# Altium footprint library ConnectorsLib.PcbLib: 142 footprints (part 8 of 9)
Each footprint in its own frame and in the unit in brackets; x right, y up, seen from the top. Pads: shape width x height; smd on the part's side, far side on the other; paste and mask are expansions set on the pad; w line width, h text height; cw(c..) or ccw(c..) is an arc to the next point about the centre after c.
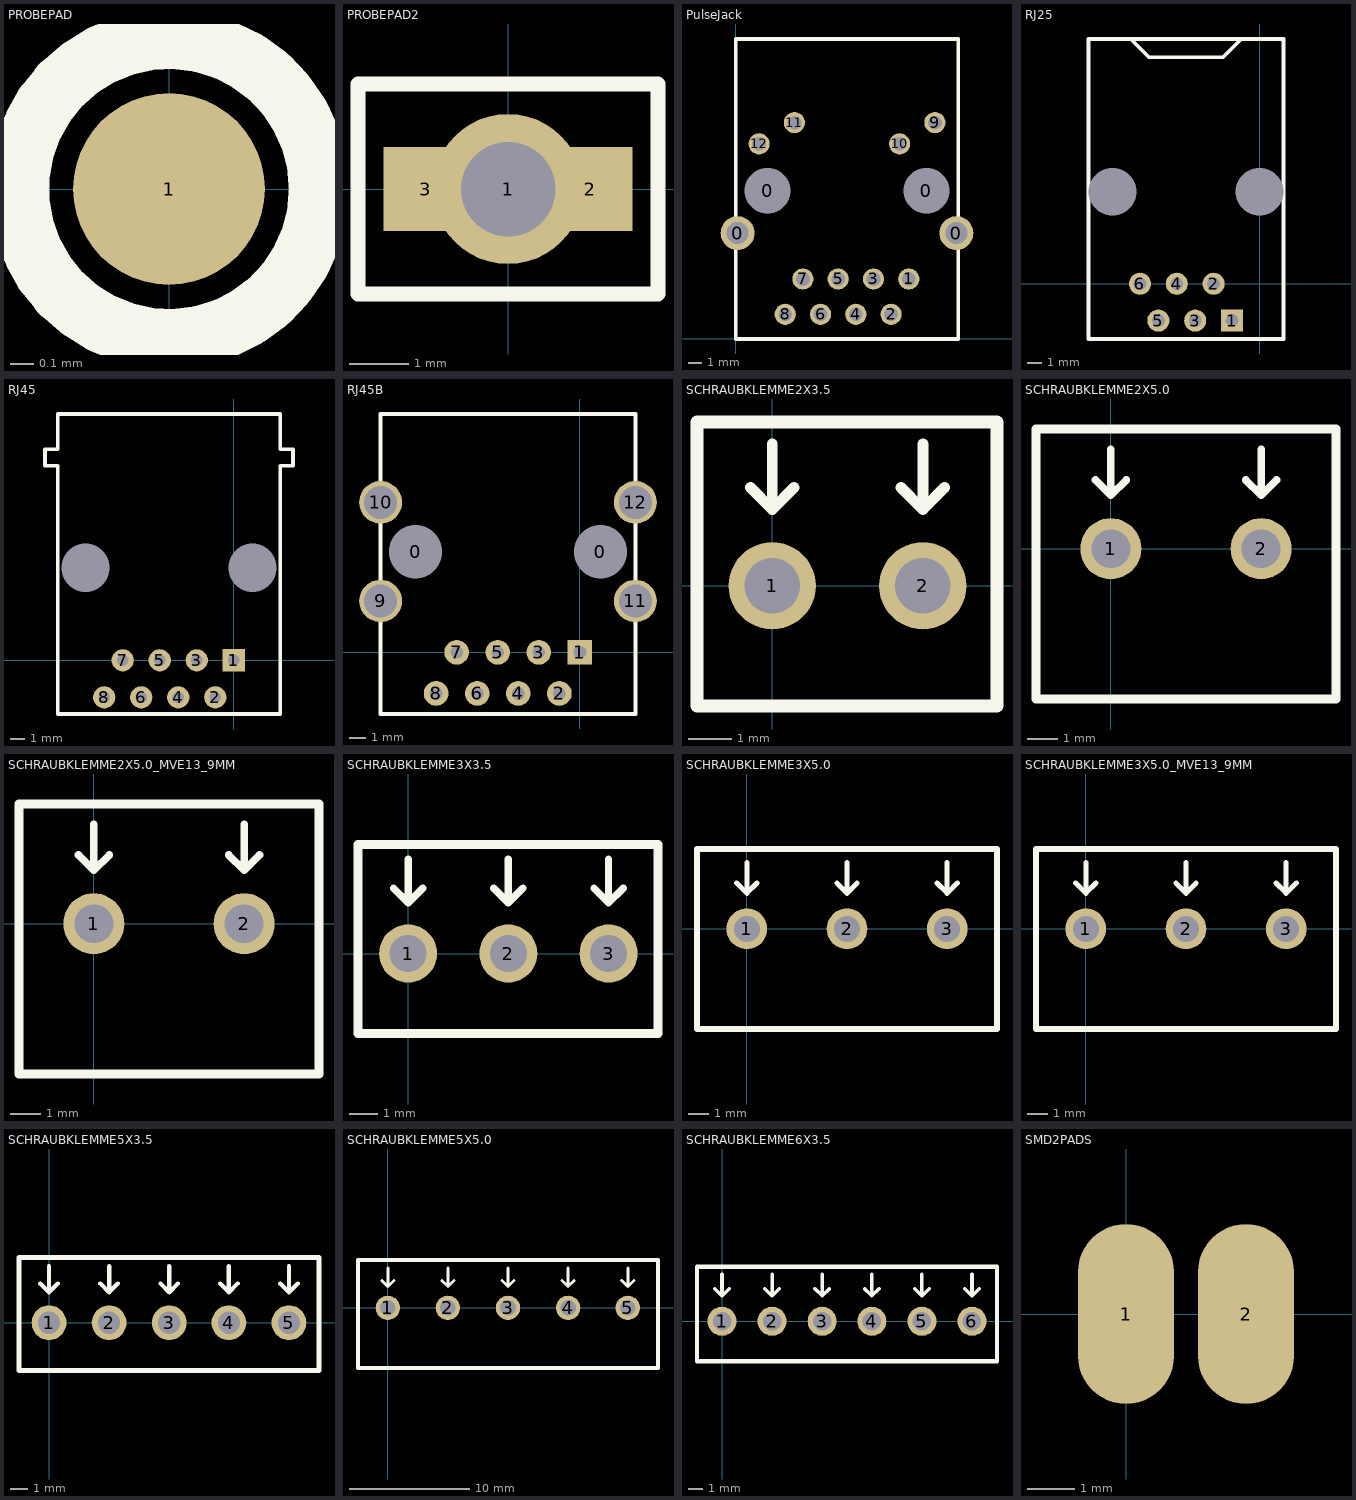
[diagram p7: the footprints below, top view; thin cyan lines are the x and y axes]

## PROBEPAD [mil]
pads (1):
  round 32 smd: 1(0,0)
Top Overlay:
  circle w10: c0,0 r25

## PROBEPAD2 [mil]
pads (3):
  round 100 hole 63: 1(0,0)
  rect 56x56 smd: 2(55,0) 3(-55,0)
Top Overlay:
  lines w10: -100,-70 100,-70 100,70 -100,70 -100,-70

## PulseJack [mil]
pads (16):
  round 96 hole 63: 0(5,300) 0(625,300)
  round 96 hole 130: 0(90,420) 0(540,420)
  round 60 hole 39: 1(490,170) 2(440,70) 3(390,170) 4(340,70) 5(290,170) 6(240,70) 7(190,170) 8(140,70) 9(564,613) 10(464,553) 11(166,613) 12(66,553)
Top Overlay:
  lines w10: 0,0 0,850 630,850 630,0 0,0
3D body: height 534.38, standoff -155.12, extent -12.62,11.83 640.92,852.24

## RJ25 [mil]
pads (8):
  rect 60x60 hole 35: 1(-75,-100)
  round 60 hole 35: 2(-125,0) 3(-175,-100) 4(-225,0) 5(-275,-100) 6(-325,0)
  round 104 hole 130: ""(-400,250) ""(0,250)
Top Overlay:
  lines w10: -350,665 -300,615 -100,615 -50,665 ; -465,-150 -465,665 65,665 65,-150 -465,-150
3D body: height 613.9, standoff -166.1, extent -509.81,-153.66 110.19,666.34

## RJ45 [mil]
pads (10):
  rect 60x60 hole 31: 1(0,0)
  round 60 hole 31: 2(-50,-100) 3(-100,0) 4(-150,-100) 5(-200,0) 6(-250,-100) 7(-300,0) 8(-350,-100)
  round 104 hole 130: ""(-400,250) ""(50,250)
Top Overlay:
  lines w10: -510,525 -475,525 -475,-145 125,-145 125,525 160,525 160,570 125,570 125,665 -475,665 -475,570 -510,570 -510,525

## RJ45B [mil]
pads (14):
  round 104 hole 130: 0(-400,245) 0(50,245)
  rect 60x60 hole 31: 1(0,0)
  round 60 hole 31: 2(-50,-100) 3(-100,0) 4(-150,-100) 5(-200,0) 6(-250,-100) 7(-300,0) 8(-350,-100)
  round 104 hole 80: 9(-485,125) 10(-485,365) 11(135,125) 12(135,365)
Top Overlay:
  lines w10: -485,-150 -485,580 135,580 135,-150 -485,-150

## SCHRAUBKLEMME2X3.5 [mil]
pads (2):
  round 80 hole 51: 1(0,0) 2(138,0)
Top Overlay:
  lines w10: -20,90 0,70 ; 0,130 0,70 ; 20,90 0,70 ; 118,90 138,70 ; 138,130 138,70 ; 158,90 138,70
  lines w12: -69,-110 206,-110 206,150 -69,150 -69,-110

## SCHRAUBKLEMME2X5.0 [mil]
pads (2):
  round 80 hole 51: 1(0,0) 2(197,0)
Top Overlay:
  lines w10: -20,90 0,70 ; 0,130 0,70 ; 20,90 0,70 ; 177,90 197,70 ; 197,130 197,70 ; 217,90 197,70
  lines w12: -98,-197 -98,157 295,157 295,-197 -98,-197

## SCHRAUBKLEMME2X5.0_MVE13_9MM [mil]
pads (2):
  round 80 hole 51: 1(0,0) 2(197,0)
Top Overlay:
  lines w10: -20,90 0,70 ; 0,130 0,70 ; 20,90 0,70 ; 177,90 197,70 ; 197,130 197,70 ; 217,90 197,70
  lines w12: -98,-197 295,-197 295,157 -98,157 -98,-197
3D body: height 393.23, standoff -138.27, extent -98.5,-181.5 295.2,133.46

## SCHRAUBKLEMME3X3.5 [mil]
pads (3):
  round 80 hole 51: 1(0,0) 2(138,0) 3(276,0)
Top Overlay:
  lines w10: -20,90 0,70 ; 0,130 0,70 ; 20,90 0,70 ; 118,90 138,70 ; 138,130 138,70 ; 158,90 138,70 ; 256,90 276,70 ; 276,130 276,70 ; 296,90 276,70
  lines w12: -69,-110 344,-110 344,150 -69,150 -69,-110

## SCHRAUBKLEMME3X5.0 [mil]
pads (3):
  round 80 hole 51: 1(0,0) 2(197,0) 3(394,0)
Top Overlay:
  lines w10: -20,90 0,70 ; 0,130 0,70 ; 20,90 0,70 ; 177,90 197,70 ; 197,130 197,70 ; 217,90 197,70 ; 374,90 394,70 ; 394,130 394,70 ; 414,90 394,70
  lines w12: -98,-197 492,-197 492,157 -98,157 -98,-197

## SCHRAUBKLEMME3X5.0_MVE13_9MM [mil]
pads (3):
  round 80 hole 51: 1(0,0) 2(197,0) 3(394,0)
Top Overlay:
  lines w10: -20,90 0,70 ; 0,130 0,70 ; 20,90 0,70 ; 177,90 197,70 ; 197,130 197,70 ; 217,90 197,70 ; 374,90 394,70 ; 394,130 394,70 ; 414,90 394,70
  lines w12: -98,-197 492,-197 492,157 -98,157 -98,-197
3D body: height 393.23, standoff -138.27, extent -98.5,-181.5 295.2,133.46
3D body: height 393.23, standoff -138.27, extent 98.5,-181.5 492.2,133.46

## SCHRAUBKLEMME5X3.5 [mil]
pads (5):
  round 80 hole 51: 1(0,0) 2(138,0) 3(276,0) 4(413,0) 5(551,0)
Top Overlay:
  lines w10: -20,90 0,70 ; 0,130 0,70 ; 20,90 0,70 ; 118,90 138,70 ; 138,130 138,70 ; 158,90 138,70 ; 256,90 276,70 ; 276,130 276,70 ; 296,90 276,70 ; 393,90 413,70 ; 413,130 413,70 ; 433,90 413,70 ; 531,90 551,70 ; 551,130 551,70 ; 571,90 551,70
  lines w12: -69,-110 620,-110 620,150 -69,150 -69,-110

## SCHRAUBKLEMME5X5.0 [mil]
pads (5):
  round 80 hole 51: 1(0,0) 2(197,0) 3(394,0) 4(591,0) 5(787,0)
Top Overlay:
  lines w10: -20,90 0,70 ; 0,130 0,70 ; 20,90 0,70 ; 177,90 197,70 ; 197,130 197,70 ; 217,90 197,70 ; 374,90 394,70 ; 394,130 394,70 ; 414,90 394,70 ; 571,90 591,70 ; 591,130 591,70 ; 611,90 591,70 ; 767,90 787,70 ; 787,130 787,70 ; 807,90 787,70
  lines w12: -98,-197 -98,157 886,157 886,-197 -98,-197

## SCHRAUBKLEMME6X3.5 [mil]
pads (6):
  round 80 hole 51: 1(0,0) 2(138,0) 3(276,0) 4(413,0) 5(551,0) 6(689,0)
Top Overlay:
  lines w10: -20,90 0,70 ; 0,130 0,70 ; 20,90 0,70 ; 118,90 138,70 ; 138,130 138,70 ; 158,90 138,70 ; 256,90 276,70 ; 276,130 276,70 ; 296,90 276,70 ; 393,90 413,70 ; 413,130 413,70 ; 433,90 413,70 ; 531,90 551,70 ; 551,130 551,70 ; 571,90 551,70 ; 669,90 689,70 ; 689,130 689,70 ; 709,90 689,70
  lines w12: -69,-110 758,-110 758,150 -69,150 -69,-110
3D body: height 589.04, standoff -9.22, extent 1077.82,330 1497.5,823.78
3D body: height 335.04, standoff -137.8, extent -71,-151.5 209,135.51
3D body: height 335.04, standoff -137.8, extent 205,-151.5 485,135.51
3D body: height 335.04, standoff -137.8, extent 480,-151.5 760,135.51

## SMD2PADS [mil]
pads (2):
  oval 80x150 smd: 1(0,0) 2(100,0)